# Altium schematic symbol library Schlib1.SchLib: 37 symbols
Pins are listed as number, name and electrical type; pins without a type are passive.

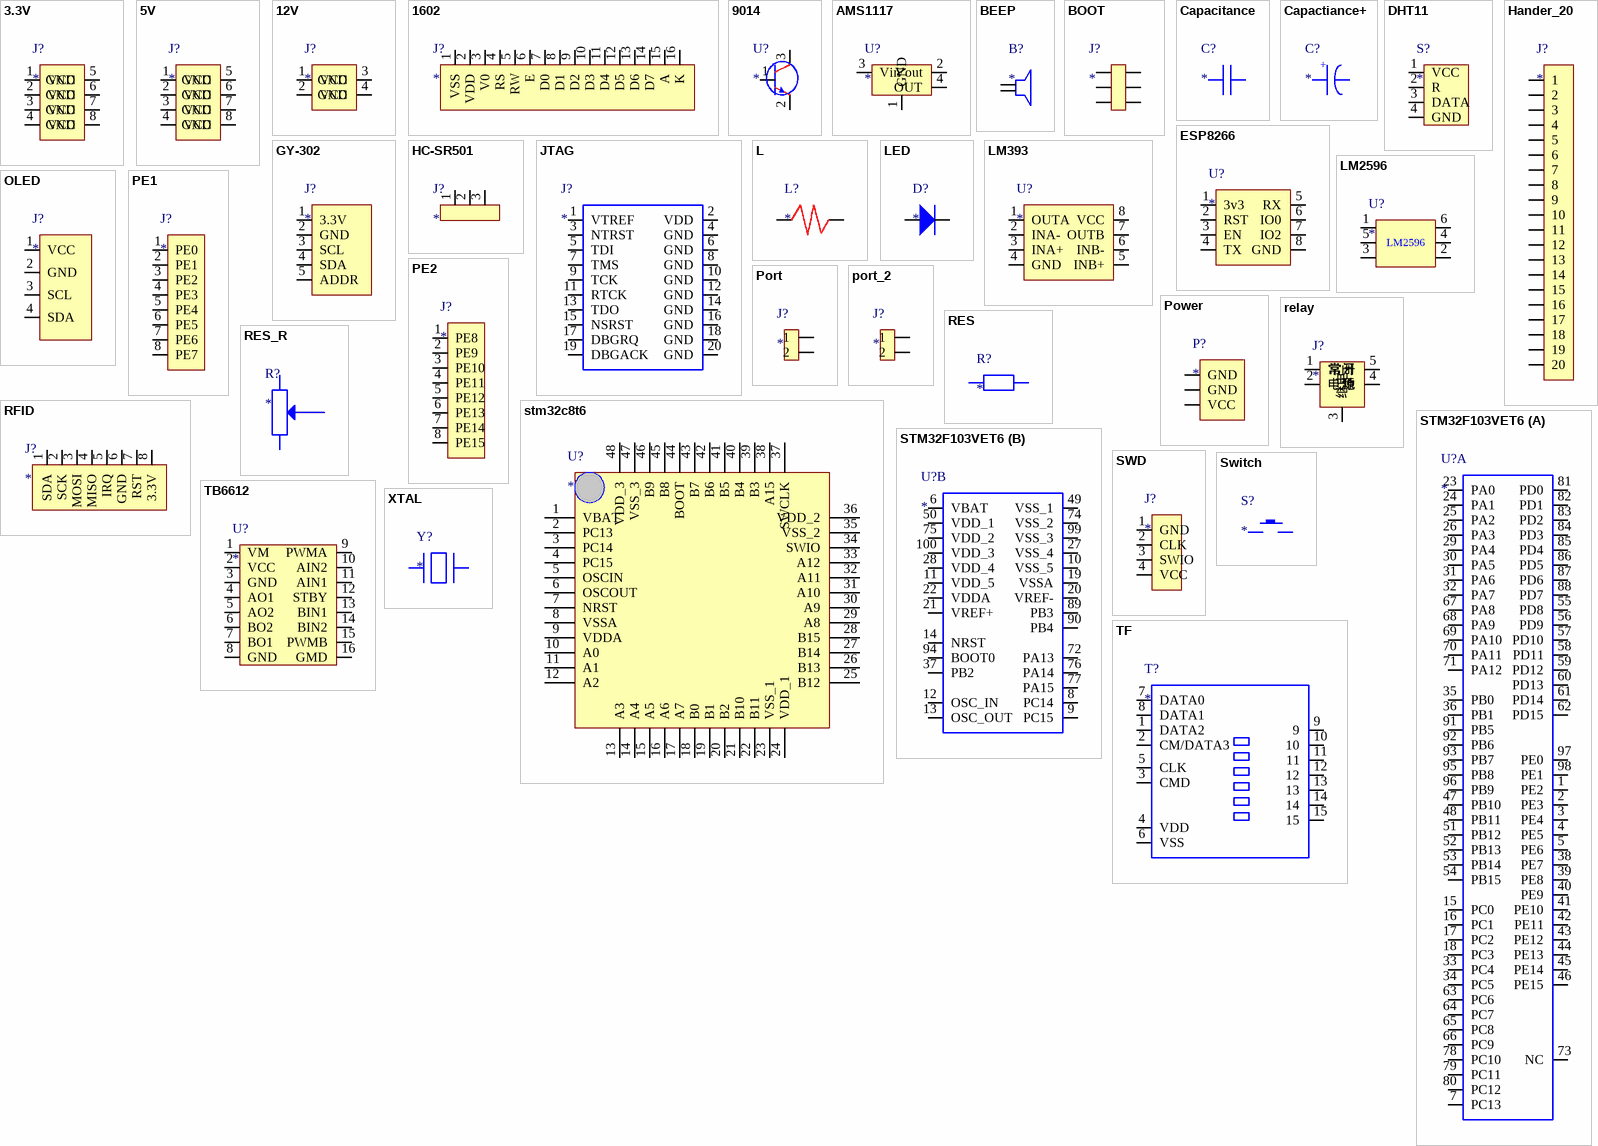
[diagram p0: symbols 3.3V to XTAL]

## 3.3V
designator J?
footprint 3.3V
pins: 1 VCC, 2 VCC, 3 VCC, 4 VCC, 5 GND, 6 GND, 7 GND, 8 GND

## 5V
designator J?
footprint 5V
pins: 1 VCC, 2 VCC, 3 VCC, 4 VCC, 5 GND, 6 GND, 7 GND, 8 GND

## 12V
designator J?
footprint 12V
pins: 1 VCC, 2 VCC, 3 GND, 4 GND

## 1602
designator J?
footprint 1602
pins: 1 VSS, 2 VDD, 3 V0, 4 RS, 5 RW, 6 E, 7 D0, 8 D1, 9 D2, 10 D3, 11 D4, 12 D5, 13 D6, 14 D7, 15 A, 16 K

## 9014
designator U?
footprint SOT-23
pins: 1, 2, 3

## AMS1117
designator U?
footprint AMS-1117-3.3
pins: 1 GND, 2 Vout, 3 Vin, 4 OUT

## BEEP
designator B?
footprint BEEP-9.5X5.5
pins: 1, 2

## BOOT
designator J?
footprint BOOT
pins: 1, 2, 3 5, 4 8, 5 7, 6

## Capacitance
designator C?
footprint CAP_0603_FIRE
pins: 1, 2

## Capactiance+
designator C?
footprint CAP+_47UF_FIRE
pins: 1, 2
text: +

## DHT11
designator S?
footprint Model Name (Footprint not found)
footprint DHT11
pins: 1 VCC, 2 R, 3 DATA, 4 GND

## ESP8266
designator U?
footprint ESP8266
pins: 1 3v3, 2 RST, 3 EN, 4 TX, 5 RX, 6 IO0, 7 IO2, 8 GND

## GY-302
designator J?
footprint GY
pins: 1 3.3V, 2 GND, 3 SCL, 4 SDA, 5 ADDR

## Hander_20
designator J?
footprint Hander_20
pins: 1, 2, 3, 4, 5, 6, 7, 8, 9, 10, 11, 12, 13, 14, 15, 16, 17, 18, 19, 20

## HC-SR501
designator J?
footprint HDR1X3
pins: 1, 2, 3

## JTAG
designator J?
footprint FC20H
pins: 1 VTREF, 2 VDD, 3 NTRST, 4 GND, 5 TDI, 6 GND, 7 TMS, 8 GND, 9 TCK, 10 GND, 11 RTCK, 12 GND, 13 TDO, 14 GND, 15 NSRST, 16 GND, 17 DBGRQ, 18 GND, 19 DBGACK, 20 GND

## L
designator L?
footprint L
pins: 1, 2

## LED
designator D?
footprint LED_Z
pins: 1, 2

## LM393
designator U?
footprint LM393
pins: 1 OUTA, 2 INA-, 3 INA+, 4 GND, 5 INB+, 6 INB-, 7 OUTB, 8 VCC

## LM2596
designator U?
footprint LM2596
pins: 1, 2, 3, 4, 5, 6

## OLED
designator J?
footprint OLED
pins: 1 VCC, 2 GND, 3 SCL, 4 SDA

## PE1
designator J?
footprint PE
pins: 1 PE0, 2 PE1, 3 PE2, 4 PE3, 5 PE4, 6 PE5, 7 PE6, 8 PE7

## PE2
designator J?
footprint PE2
pins: 1 PE8, 2 PE9, 3 PE10, 4 PE11, 5 PE12, 6 PE13, 7 PE14, 8 PE15

## Port
designator J?
footprint port
pins: 1, 2

## port_2
designator J?
footprint port_2
pins: 1, 2

## Power
designator P?
footprint POWER
pins: 1 GND, 2 GND, 3 VCC

## relay
designator J?
footprint relay
pins: 1 常闭, 2 电源, 3 继电, 4 地, 5 常开

## RES
designator R?
footprint R_0603
pins: 1, 2

## RES_R
designator R?
footprint RES_R
pins: 1 VCC, 2 VCC, 3 VCC

## RFID
designator J?
footprint RFID
pins: 1 SDA, 2 SCK, 3 MOSI, 4 MISO, 5 IRQ, 6 GND, 7 RST, 8 3.3V

## stm32c8t6
designator U?
footprint LQFP48_N
pins: 1 VBAT, 2 PC13, 3 PC14, 4 PC15, 5 OSCIN, 6 OSCOUT, 7 NRST, 8 VSSA, 9 VDDA, 10 A0, 11 A1, 12 A2, 13 A3, 14 A4, 15 A5, 16 A6, 17 A7, 18 B0, 19 B1, 20 B2, 21 B10, 22 B11, 23 VSS_1, 24 VDD_1, 25 B12, 26 B13, 27 B14, 28 B15, 29 A8, 30 A9, 31 A10, 32 A11, 33 A12, 34 SWIO, 35 VSS_2, 36 VDD_2, 37 SWCLK, 38 A15, 39 B3, 40 B4, 41 B5, 42 B6, 43 B7, 44 BOOT, 45 B8, 46 B9, 47 VSS_3, 48 VDD_3

## STM32F103VET6
designator U?
footprint STM32F103VET6-LQFP
part A pins: 1 PE2, 2 PE3, 3 PE4, 4 PE5, 5 PE6, 7 PC13, 15 PC0, 16 PC1, 17 PC2, 18 PC3, 23 PA0, 24 PA1, 25 PA2, 26 PA3, 29 PA4, 30 PA5, 31 PA6, 32 PA7, 33 PC4, 34 PC5, 35 PB0, 36 PB1, 38 PE7, 39 PE8, 40 PE9, 41 PE10, 42 PE11, 43 PE12, 44 PE13, 45 PE14, 46 PE15, 47 PB10, 48 PB11, 51 PB12, 52 PB13, 53 PB14, 54 PB15, 55 PD8, 56 PD9, 57 PD10, 58 PD11, 59 PD12, 60 PD13, 61 PD14, 62 PD15, 63 PC6, 64 PC7, 65 PC8, 66 PC9, 67 PA8, 68 PA9, 69 PA10, 70 PA11, 71 PA12, 73 NC, 78 PC10, 79 PC11, 80 PC12, 81 PD0, 82 PD1, 83 PD2, 84 PD3, 85 PD4, 86 PD5, 87 PD6, 88 PD7, 91 PB5, 92 PB6, 93 PB7, 95 PB8, 96 PB9, 97 PE0, 98 PE1
part B pins: 6 VBAT, 8 PC14, 9 PC15, 10 VSS_5, 11 VDD_5, 12 OSC_IN, 13 OSC_OUT, 14 NRST, 19 VSSA, 20 VREF-, 21 VREF+, 22 VDDA, 27 VSS_4, 28 VDD_4, 37 PB2, 49 VSS_1, 50 VDD_1, 72 PA13, 74 VSS_2, 75 VDD_2, 76 PA14, 77 PA15, 89 PB3, 90 PB4, 94 BOOT0, 99 VSS_3, 100 VDD_3

## SWD
designator J?
footprint SWD
footprint SWD
pins: 1 GND, 2 CLK, 3 SWIO, 4 VCC

## Switch
designator S?
footprint SWITCH
pins: 1 VCC, 2 VCC

## TB6612
designator U?
footprint TB6612
pins: 1 VM, 2 VCC, 3 GND, 4 AO1, 5 AO2, 6 BO2, 7 BO1, 8 GND, 9 PWMA, 10 AIN2, 11 AIN1, 12 STBY, 13 BIN1, 14 BIN2, 15 PWMB, 16 GMD

## TF
designator T?
footprint TF_CARD
pins: 1 DATA2, 2 CM/DATA3, 3 CMD, 4 VDD, 5 CLK, 6 VSS, 7 DATA0, 8 DATA1, 9, 10, 11, 12, 13, 14, 15

## XTAL
designator Y?
footprint XTAL
pins: 1, 2